# Altium integrated library TI Power Management PCMCIA and USB.IntLib: 328 symbols (part 9 of 14)
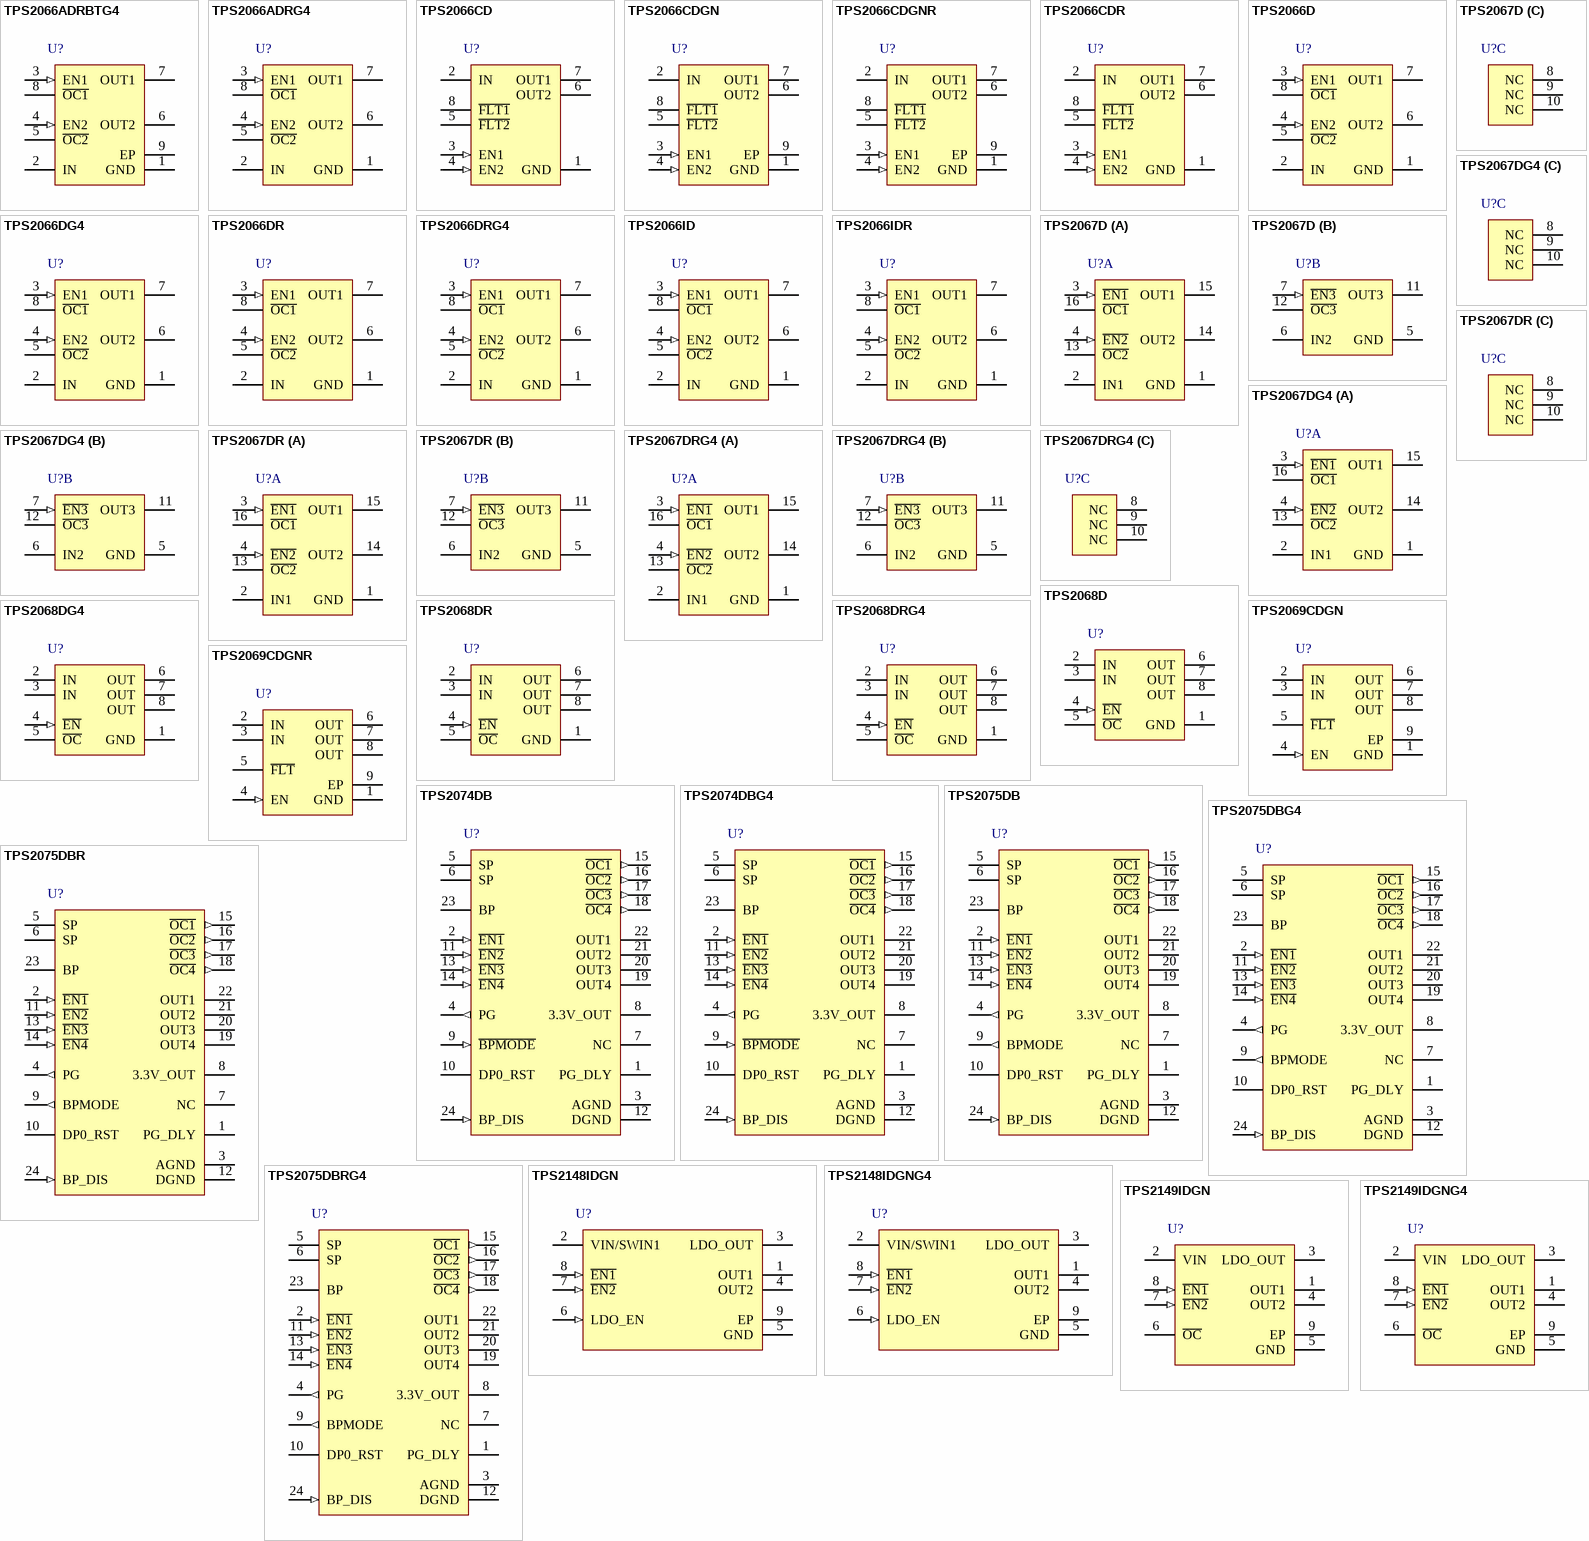
[diagram p18: symbols TPS2066ADRBTG4 to TPS2149IDGNG4]

## TPS2148IDGN
designator U?
3.3 V LDO + Dual Switch for USB Peripherals, Active-Low Enables, 2 Ports, 2 FETs, 200 mA LDO Output Current, -40 to 85 degC, 8-pin MSOP-PowerPAD (DGN), Green (RoHS & no Sb/Br); Manufacturer: Texas Instruments; PartNumber: TPS2148IDGN; LDO Output Current(mA): 200; LDO Output Range(V): 3.3; Number of FETs: 2; rDS(on) per FET, Bus Power(Typ)(mOhms): 340; SubFamily: USB Power Controller; Switch Current Limit, Bus Power(Min)(A): 0.2; Switch Enable: L; Vin(Max)(V): 5.5; Vin(Min)(V): 2.9; DatasheetVersion: SLVS373; PackageVersion: revF, May-2011; PackageReference: DGN8-1760X1425TP; PackageDescription: 8-Pin PowerPAD Plastic Small Outline Package 3 x 3 mm Body ,0.65 mm Pitch, Exposed Pad; Supplier 1: Digi-Key; Supplier Part Number 1: 296-13387-5-ND; Supplier 2: Newark; Supplier Part Number 2: 77C0096; Supplier 3: Mouser; Supplier Part Number 3: 595-TPS2148IDGN; Application: USB peripheral; Ports(Max): 2; Mounting Technology: Surface Mount; Code_JEDEC: MO-187-AA-T; ComponentLink1Description: Datasheet; ComponentLink1URL: http://www.ti.com/general/docs/lit/getliterature.tsp?genericPartNumber=TPS2148&fileType=pdf
footprint DGN8-1760X1425TP_N (TSOP, 8-Leads, Body 3x3mm, Pitch 0.65mm, Thermal Pad 1.89x1.57mm, IPC Medium Density)
footprint DGN8-1760X1425TP_L (TSOP, 8-Leads, Body 3x3mm, Pitch 0.65mm, Thermal Pad 1.89x1.57mm, IPC High Density)
footprint DGN8-1760X1425TP_M (TSOP, 8-Leads, Body 3x3mm, Pitch 0.65mm, Thermal Pad 1.89x1.57mm, IPC Low Density)
pins: 1 OUT1 (power) "Switch 1 output", 2 VIN/SWIN1 (power) "Input for LDO and switch 1; device supply voltage", 3 LDO_OUT (power) "LDO output", 4 OUT2 (power) "Switch 2 output", 5 GND (power) "Ground", 6 LDO_EN (in) "Logic level LDO enable. Active high.", 7 ~{EN2} (in) "Logic level enable to transfer power to OUT2", 8 ~{EN1} (in) "Logic level enable to transfer power to OUT1", 9 EP "Thermal Pad"

## TPS2148IDGNG4
designator U?
3.3 V LDO + Dual Switch for USB Peripherals, Active-Low Enables, 2 Ports, 2 FETs, 200 mA LDO Output Current, -40 to 85 degC, 8-pin MSOP-PowerPAD (DGN), Green (RoHS & no Sb/Br); Manufacturer: Texas Instruments; PartNumber: TPS2148IDGNG4; LDO Output Current(mA): 200; LDO Output Range(V): 3.3; Number of FETs: 2; rDS(on) per FET, Bus Power(Typ)(mOhms): 340; SubFamily: USB Power Controller; Switch Current Limit, Bus Power(Min)(A): 0.2; Switch Enable: L; Vin(Max)(V): 5.5; Vin(Min)(V): 2.9; DatasheetVersion: SLVS373; PackageVersion: revF, May-2011; PackageReference: DGN8-1760X1425TP; PackageDescription: 8-Pin PowerPAD Plastic Small Outline Package 3 x 3 mm Body ,0.65 mm Pitch, Exposed Pad; Supplier 1: Digi-Key; Supplier Part Number 1: TPS2148IDGNG4-ND; Supplier 2: Newark; Supplier Part Number 2: 18M3214; Supplier 3: Mouser; Supplier Part Number 3: 595-TPS2148IDGNG4; Application: USB peripheral; Ports(Max): 2; Mounting Technology: Surface Mount; Code_JEDEC: MO-187-AA-T; ComponentLink1Description: Datasheet; ComponentLink1URL: http://www.ti.com/general/docs/lit/getliterature.tsp?genericPartNumber=TPS2148&fileType=pdf
footprint DGN8-1760X1425TP_N (TSOP, 8-Leads, Body 3x3mm, Pitch 0.65mm, Thermal Pad 1.89x1.57mm, IPC Medium Density)
footprint DGN8-1760X1425TP_L (TSOP, 8-Leads, Body 3x3mm, Pitch 0.65mm, Thermal Pad 1.89x1.57mm, IPC High Density)
footprint DGN8-1760X1425TP_M (TSOP, 8-Leads, Body 3x3mm, Pitch 0.65mm, Thermal Pad 1.89x1.57mm, IPC Low Density)
pins: 1 OUT1 (power) "Switch 1 output", 2 VIN/SWIN1 (power) "Input for LDO and switch 1; device supply voltage", 3 LDO_OUT (power) "LDO output", 4 OUT2 (power) "Switch 2 output", 5 GND (power) "Ground", 6 LDO_EN (in) "Logic level LDO enable. Active high.", 7 ~{EN2} (in) "Logic level enable to transfer power to OUT2", 8 ~{EN1} (in) "Logic level enable to transfer power to OUT1", 9 EP "Thermal Pad"

## TPS2149IDGN
designator U?
3.3 V LDO + Dual Switch for USB Hubs, Active-Low Enables, 2 Ports, 2 FETs, 200 mA LDO Output Current, -40 to 85 degC, 8-pin MSOP-PowerPAD (DGN), Green (RoHS & no Sb/Br); Manufacturer: Texas Instruments; PartNumber: TPS2149IDGN; LDO Output Current(mA): 200; LDO Output Range(V): 3.3; Number of FETs: 2; rDS(on) per FET, Bus Power(Typ)(mOhms): 340; SubFamily: USB Power Controller; Switch Current Limit, Bus Power(Min)(A): 0.2; Switch Enable: L; Vin(Max)(V): 5.5; Vin(Min)(V): 2.9; DatasheetVersion: SLVS401; PackageVersion: revF, May-2011; PackageReference: DGN8-1760X1425TP; PackageDescription: 8-Pin PowerPAD Plastic Small Outline Package 3 x 3 mm Body ,0.65 mm Pitch, Exposed Pad; Supplier 1: Digi-Key; Supplier Part Number 1: 296-13388-5-ND; Supplier 2: Newark; Supplier Part Number 2: 77C0098; Supplier 3: Mouser; Supplier Part Number 3: 595-TPS2149IDGN; Application: USB 2-port hub; Ports(Max): 2; Mounting Technology: Surface Mount; Code_JEDEC: MO-187-AA-T; ComponentLink1Description: Datasheet; ComponentLink1URL: http://www.ti.com/general/docs/lit/getliterature.tsp?genericPartNumber=TPS2149&fileType=pdf
footprint DGN8-1760X1425TP_N (TSOP, 8-Leads, Body 3x3mm, Pitch 0.65mm, Thermal Pad 1.89x1.57mm, IPC Medium Density)
footprint DGN8-1760X1425TP_L (TSOP, 8-Leads, Body 3x3mm, Pitch 0.65mm, Thermal Pad 1.89x1.57mm, IPC High Density)
footprint DGN8-1760X1425TP_M (TSOP, 8-Leads, Body 3x3mm, Pitch 0.65mm, Thermal Pad 1.89x1.57mm, IPC Low Density)
pins: 1 OUT1 (power) "Switch 1 output", 2 VIN (power) "Input for LDO switch 1 and switch 2; device supply voltage", 3 LDO_OUT (power) "LDO output", 4 OUT2 (power) "Switch 2 output", 5 GND (power) "Ground", 6 ~{OC} (oc) "Overcurrent status flag for OUT1 and OUT2. Open drain output.", 7 ~{EN2} (in) "Logic level enable to transfer power to OUT2", 8 ~{EN1} (in) "Logic level enable to transfer power to OUT1", 9 EP "Thermal Pad"

## TPS2149IDGNG4
designator U?
3.3 V LDO + Dual Switch for USB Hubs, Active-Low Enables, 2 Ports, 2 FETs, 200 mA LDO Output Current, -40 to 85 degC, 8-pin MSOP-PowerPAD (DGN), Green (RoHS & no Sb/Br); Manufacturer: Texas Instruments; PartNumber: TPS2149IDGNG4; LDO Output Current(mA): 200; LDO Output Range(V): 3.3; Number of FETs: 2; rDS(on) per FET, Bus Power(Typ)(mOhms): 340; SubFamily: USB Power Controller; Switch Current Limit, Bus Power(Min)(A): 0.2; Switch Enable: L; Vin(Max)(V): 5.5; Vin(Min)(V): 2.9; DatasheetVersion: SLVS401; PackageVersion: revF, May-2011; PackageReference: DGN8-1760X1425TP; PackageDescription: 8-Pin PowerPAD Plastic Small Outline Package 3 x 3 mm Body ,0.65 mm Pitch, Exposed Pad; Supplier 1: Digi-Key; Supplier Part Number 1: TPS2149IDGNG4-ND; Supplier 2: Newark; Supplier Part Number 2: 58K6896; Supplier 3: Mouser; Supplier Part Number 3: 595-TPS2149IDGNG4; Application: USB 2-port hub; Ports(Max): 2; Mounting Technology: Surface Mount; Code_JEDEC: MO-187-AA-T; ComponentLink1Description: Datasheet; ComponentLink1URL: http://www.ti.com/general/docs/lit/getliterature.tsp?genericPartNumber=TPS2149&fileType=pdf
footprint DGN8-1760X1425TP_N (TSOP, 8-Leads, Body 3x3mm, Pitch 0.65mm, Thermal Pad 1.89x1.57mm, IPC Medium Density)
footprint DGN8-1760X1425TP_L (TSOP, 8-Leads, Body 3x3mm, Pitch 0.65mm, Thermal Pad 1.89x1.57mm, IPC High Density)
footprint DGN8-1760X1425TP_M (TSOP, 8-Leads, Body 3x3mm, Pitch 0.65mm, Thermal Pad 1.89x1.57mm, IPC Low Density)
pins: 1 OUT1 (power) "Switch 1 output", 2 VIN (power) "Input for LDO switch 1 and switch 2; device supply voltage", 3 LDO_OUT (power) "LDO output", 4 OUT2 (power) "Switch 2 output", 5 GND (power) "Ground", 6 ~{OC} (oc) "Overcurrent status flag for OUT1 and OUT2. Open drain output.", 7 ~{EN2} (in) "Logic level enable to transfer power to OUT2", 8 ~{EN1} (in) "Logic level enable to transfer power to OUT1", 9 EP "Thermal Pad"

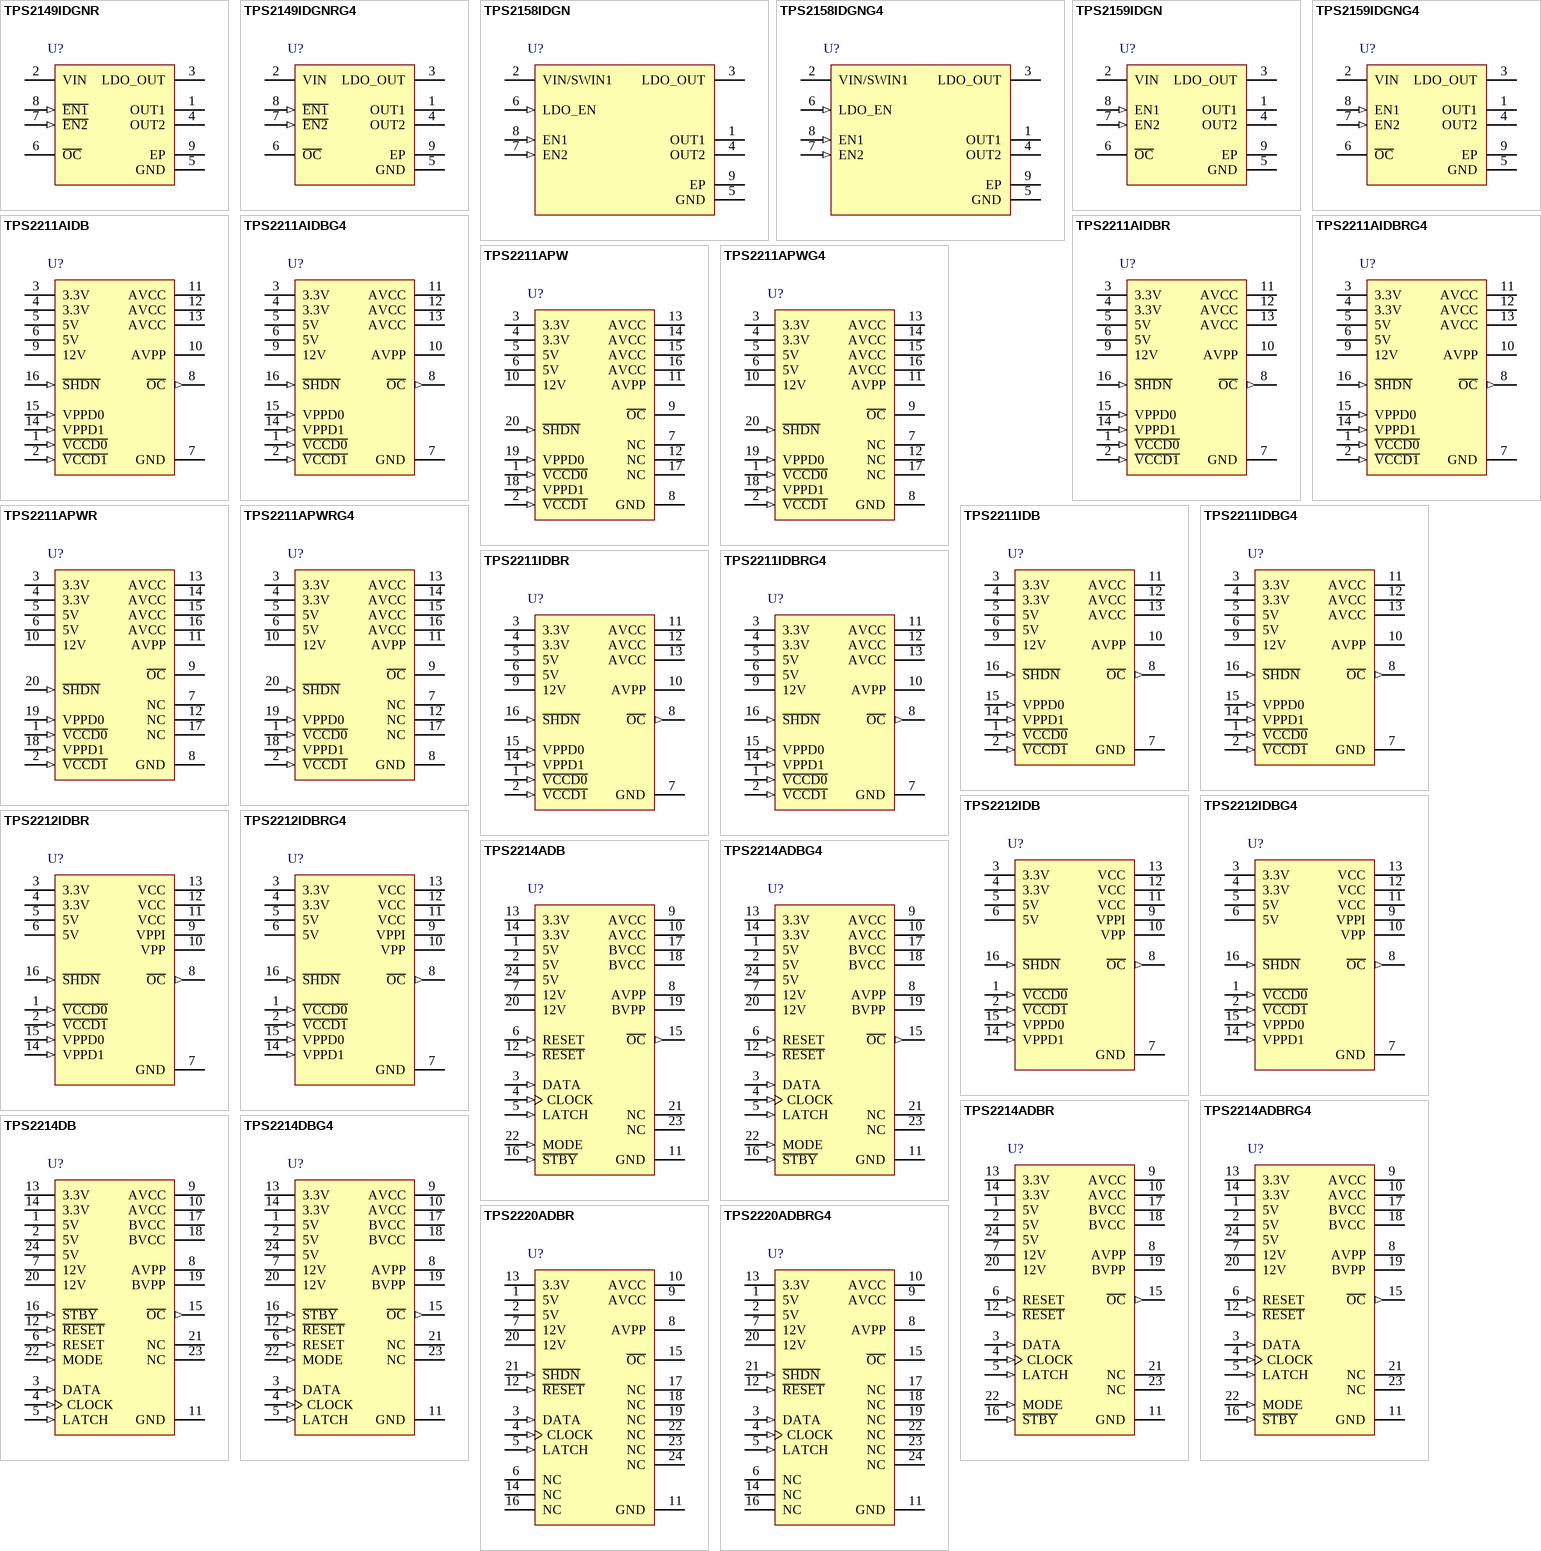
[diagram p7: symbols TPS2149IDGNR to TPS2220ADBRG4]

## TPS2149IDGNR
designator U?
3.3 V LDO + Dual Switch for USB Hubs, Active-Low Enables, 2 Ports, 2 FETs, 200 mA LDO Output Current, -40 to 85 degC, 8-pin MSOP-PowerPAD (DGN); Manufacturer: Texas Instruments; PartNumber: TPS2149IDGNR; LDO Output Current(mA): 200; LDO Output Range(V): 3.3; Number of FETs: 2; rDS(on) per FET, Bus Power(Typ)(mOhms): 340; SubFamily: USB Power Controller; Switch Current Limit, Bus Power(Min)(A): 0.2; Switch Enable: L; Vin(Max)(V): 5.5; Vin(Min)(V): 2.9; DatasheetVersion: SLVS401; PackageVersion: revF, May-2011; PackageReference: DGN8-1760X1425TP; PackageDescription: 8-Pin PowerPAD Plastic Small Outline Package 3 x 3 mm Body ,0.65 mm Pitch, Exposed Pad; Supplier 1: Digi-Key; Supplier Part Number 1: TPS2149IDGNR-ND; Supplier 2: Newark; Supplier Part Number 2: 77C0099; Supplier 3: Mouser; Supplier Part Number 3: 595-TPS2149IDGNR; Application: USB 2-port hub; Ports(Max): 2; Mounting Technology: Surface Mount; Code_JEDEC: MO-187-AA-T; ComponentLink1Description: Datasheet; ComponentLink1URL: http://www.ti.com/general/docs/lit/getliterature.tsp?genericPartNumber=TPS2149&fileType=pdf
footprint DGN8-1760X1425TP_N (TSOP, 8-Leads, Body 3x3mm, Pitch 0.65mm, Thermal Pad 1.89x1.57mm, IPC Medium Density)
footprint DGN8-1760X1425TP_L (TSOP, 8-Leads, Body 3x3mm, Pitch 0.65mm, Thermal Pad 1.89x1.57mm, IPC High Density)
footprint DGN8-1760X1425TP_M (TSOP, 8-Leads, Body 3x3mm, Pitch 0.65mm, Thermal Pad 1.89x1.57mm, IPC Low Density)
pins: 1 OUT1 (power) "Switch 1 output", 2 VIN (power) "Input for LDO switch 1 and switch 2; device supply voltage", 3 LDO_OUT (power) "LDO output", 4 OUT2 (power) "Switch 2 output", 5 GND (power) "Ground", 6 ~{OC} (oc) "Overcurrent status flag for OUT1 and OUT2. Open drain output.", 7 ~{EN2} (in) "Logic level enable to transfer power to OUT2", 8 ~{EN1} (in) "Logic level enable to transfer power to OUT1", 9 EP "Thermal Pad"

## TPS2149IDGNRG4
designator U?
3.3 V LDO + Dual Switch for USB Hubs, Active-Low Enables, 2 Ports, 2 FETs, 200 mA LDO Output Current, -40 to 85 degC, 8-pin MSOP-PowerPAD (DGN); Manufacturer: Texas Instruments; PartNumber: TPS2149IDGNRG4; LDO Output Current(mA): 200; LDO Output Range(V): 3.3; Number of FETs: 2; rDS(on) per FET, Bus Power(Typ)(mOhms): 340; SubFamily: USB Power Controller; Switch Current Limit, Bus Power(Min)(A): 0.2; Switch Enable: L; Vin(Max)(V): 5.5; Vin(Min)(V): 2.9; DatasheetVersion: SLVS401; PackageVersion: revF, May-2011; PackageReference: DGN8-1760X1425TP; PackageDescription: 8-Pin PowerPAD Plastic Small Outline Package 3 x 3 mm Body ,0.65 mm Pitch, Exposed Pad; Supplier 1: Digi-Key; Supplier Part Number 1: TPS2149IDGNRG4-ND; Supplier 2: Newark; Supplier Part Number 2: 54K1563; Supplier 3: Mouser; Supplier Part Number 3: 595-TPS2149IDGNRG4; Application: USB 2-port hub; Ports(Max): 2; Mounting Technology: Surface Mount; Code_JEDEC: MO-187-AA-T; ComponentLink1Description: Datasheet; ComponentLink1URL: http://www.ti.com/general/docs/lit/getliterature.tsp?genericPartNumber=TPS2149&fileType=pdf
footprint DGN8-1760X1425TP_N (TSOP, 8-Leads, Body 3x3mm, Pitch 0.65mm, Thermal Pad 1.89x1.57mm, IPC Medium Density)
footprint DGN8-1760X1425TP_L (TSOP, 8-Leads, Body 3x3mm, Pitch 0.65mm, Thermal Pad 1.89x1.57mm, IPC High Density)
footprint DGN8-1760X1425TP_M (TSOP, 8-Leads, Body 3x3mm, Pitch 0.65mm, Thermal Pad 1.89x1.57mm, IPC Low Density)
pins: 1 OUT1 (power) "Switch 1 output", 2 VIN (power) "Input for LDO switch 1 and switch 2; device supply voltage", 3 LDO_OUT (power) "LDO output", 4 OUT2 (power) "Switch 2 output", 5 GND (power) "Ground", 6 ~{OC} (oc) "Overcurrent status flag for OUT1 and OUT2. Open drain output.", 7 ~{EN2} (in) "Logic level enable to transfer power to OUT2", 8 ~{EN1} (in) "Logic level enable to transfer power to OUT1", 9 EP "Thermal Pad"

## TPS2158IDGN
designator U?
3.3 V LDO + Dual Switch for USB Peripherals, Active-High Enables, 2 Ports, 2 FETs, 200 mA LDO Output Current, -40 to 85 degC, 8-pin MSOP-PowerPAD (DGN), Green (RoHS & no Sb/Br); Manufacturer: Texas Instruments; PartNumber: TPS2158IDGN; LDO Output Current(mA): 200; LDO Output Range(V): 3.3; Number of FETs: 2; rDS(on) per FET, Bus Power(Typ)(mOhms): 340; SubFamily: USB Power Controller; Switch Current Limit, Bus Power(Min)(A): 0.2; Switch Enable: H; Vin(Max)(V): 5.5; Vin(Min)(V): 2.9; DatasheetVersion: SLVS373; PackageVersion: revF, May-2011; PackageReference: DGN8-1760X1425TP; PackageDescription: 8-Pin PowerPAD Plastic Small Outline Package 3 x 3 mm Body ,0.65 mm Pitch, Exposed Pad; Supplier 1: Digi-Key; Supplier Part Number 1: 296-13391-5-ND; Supplier 2: Farnell; Supplier Part Number 2: 1755623; Supplier 3: Newark; Supplier Part Number 3: 77C0108; Supplier 4: Mouser; Supplier Part Number 4: 595-TPS2158IDGN; Application: USB peripheral; Ports(Max): 2; Mounting Technology: Surface Mount; Code_JEDEC: MO-187-AA-T; ComponentLink1Description: Datasheet; ComponentLink1URL: http://www.ti.com/general/docs/lit/getliterature.tsp?genericPartNumber=TPS2158&fileType=pdf
footprint DGN8-1760X1425TP_N (TSOP, 8-Leads, Body 3x3mm, Pitch 0.65mm, Thermal Pad 1.89x1.57mm, IPC Medium Density)
footprint DGN8-1760X1425TP_L (TSOP, 8-Leads, Body 3x3mm, Pitch 0.65mm, Thermal Pad 1.89x1.57mm, IPC High Density)
footprint DGN8-1760X1425TP_M (TSOP, 8-Leads, Body 3x3mm, Pitch 0.65mm, Thermal Pad 1.89x1.57mm, IPC Low Density)
pins: 1 OUT1 (power) "Switch 1 output.", 2 VIN/SWIN1 (power) "Input for LDO and switch 1; device supply voltage.", 3 LDO_OUT (power) "LDO output.", 4 OUT2 (power) "Switch 2 output.", 5 GND (power) "Ground.", 6 LDO_EN (in) "Logic level LDO enable. Active high.", 7 EN2 (in) "Logic level enable to transfer power to OUT2.", 8 EN1 (in) "Logic level enable to transfer power to OUT1.", 9 EP (power) "Exposed Thermal Pad."

## TPS2158IDGNG4
designator U?
3.3 V LDO + Dual Switch for USB Peripherals, Active-High Enables, 2 Ports, 2 FETs, 200 mA LDO Output Current, -40 to 85 degC, 8-pin MSOP-PowerPAD (DGN), Green (RoHS & no Sb/Br); Manufacturer: Texas Instruments; PartNumber: TPS2158IDGNG4; LDO Output Current(mA): 200; LDO Output Range(V): 3.3; Number of FETs: 2; rDS(on) per FET, Bus Power(Typ)(mOhms): 340; SubFamily: USB Power Controller; Switch Current Limit, Bus Power(Min)(A): 0.2; Switch Enable: H; Vin(Max)(V): 5.5; Vin(Min)(V): 2.9; DatasheetVersion: SLVS373; PackageVersion: revF, May-2011; PackageReference: DGN8-1760X1425TP; PackageDescription: 8-Pin PowerPAD Plastic Small Outline Package 3 x 3 mm Body ,0.65 mm Pitch, Exposed Pad; Supplier 1: Digi-Key; Supplier Part Number 1: TPS2158IDGNG4-ND; Supplier 2: Newark; Supplier Part Number 2: 54K1566; Supplier 3: Mouser; Supplier Part Number 3: 595-TPS2158IDGNG4; Application: USB peripheral; Ports(Max): 2; Mounting Technology: Surface Mount; Code_JEDEC: MO-187-AA-T; ComponentLink1Description: Datasheet; ComponentLink1URL: http://www.ti.com/general/docs/lit/getliterature.tsp?genericPartNumber=TPS2158&fileType=pdf
footprint DGN8-1760X1425TP_N (TSOP, 8-Leads, Body 3x3mm, Pitch 0.65mm, Thermal Pad 1.89x1.57mm, IPC Medium Density)
footprint DGN8-1760X1425TP_L (TSOP, 8-Leads, Body 3x3mm, Pitch 0.65mm, Thermal Pad 1.89x1.57mm, IPC High Density)
footprint DGN8-1760X1425TP_M (TSOP, 8-Leads, Body 3x3mm, Pitch 0.65mm, Thermal Pad 1.89x1.57mm, IPC Low Density)
pins: 1 OUT1 (power) "Switch 1 output.", 2 VIN/SWIN1 (power) "Input for LDO and switch 1; device supply voltage.", 3 LDO_OUT (power) "LDO output.", 4 OUT2 (power) "Switch 2 output.", 5 GND (power) "Ground.", 6 LDO_EN (in) "Logic level LDO enable. Active high.", 7 EN2 (in) "Logic level enable to transfer power to OUT2.", 8 EN1 (in) "Logic level enable to transfer power to OUT1.", 9 EP (power) "Exposed Thermal Pad."

## TPS2159IDGN
designator U?
3.3 V LDO + Dual Switch for USB Hubs, Active-High Enables, 2 Ports, 2 FETs, 200 mA LDO Output Current, -40 to 85 degC, 8-pin MSOP-PowerPAD (DGN), Green (RoHS & no Sb/Br); Manufacturer: Texas Instruments; PartNumber: TPS2159IDGN; LDO Output Current(mA): 200; LDO Output Range(V): 3.3; Number of FETs: 2; rDS(on) per FET, Bus Power(Typ)(mOhms): 340; SubFamily: USB Power Controller; Switch Current Limit, Bus Power(Min)(A): 0.2; Switch Enable: H; Vin(Max)(V): 5.5; Vin(Min)(V): 2.9; DatasheetVersion: SLVS401; PackageVersion: revF, May-2011; PackageReference: DGN8-1760X1425TP; PackageDescription: 8-Pin PowerPAD Plastic Small Outline Package 3 x 3 mm Body ,0.65 mm Pitch, Exposed Pad; Supplier 1: Digi-Key; Supplier Part Number 1: 296-13392-5-ND; Supplier 2: Newark; Supplier Part Number 2: 77C0110; Supplier 3: Mouser; Supplier Part Number 3: 595-TPS2159IDGN; Application: USB 2-port hub; Ports(Max): 2; Mounting Technology: Surface Mount; Code_JEDEC: MO-187-AA-T; ComponentLink1Description: Datasheet; ComponentLink1URL: http://www.ti.com/general/docs/lit/getliterature.tsp?genericPartNumber=TPS2159&fileType=pdf
footprint DGN8-1760X1425TP_N (TSOP, 8-Leads, Body 3x3mm, Pitch 0.65mm, Thermal Pad 1.89x1.57mm, IPC Medium Density)
footprint DGN8-1760X1425TP_L (TSOP, 8-Leads, Body 3x3mm, Pitch 0.65mm, Thermal Pad 1.89x1.57mm, IPC High Density)
footprint DGN8-1760X1425TP_M (TSOP, 8-Leads, Body 3x3mm, Pitch 0.65mm, Thermal Pad 1.89x1.57mm, IPC Low Density)
pins: 1 OUT1 (power) "Switch 1 output", 2 VIN (power) "Input for LDO switch 1 and switch 2; device supply voltage", 3 LDO_OUT (power) "LDO output", 4 OUT2 (power) "Switch 2 output", 5 GND (power) "Ground", 6 ~{OC} (oc) "Overcurrent status flag for OUT1 and OUT2. Open drain output.", 7 EN2 (in) "Logic level enable to transfer power to OUT2", 8 EN1 (in) "Logic level enable to transfer power to OUT1", 9 EP "Thermal Pad"

## TPS2159IDGNG4
designator U?
3.3 V LDO + Dual Switch for USB Hubs, Active-High Enables, 2 Ports, 2 FETs, 200 mA LDO Output Current, -40 to 85 degC, 8-pin MSOP-PowerPAD (DGN), Green (RoHS & no Sb/Br); Manufacturer: Texas Instruments; PartNumber: TPS2159IDGNG4; LDO Output Current(mA): 200; LDO Output Range(V): 3.3; Number of FETs: 2; rDS(on) per FET, Bus Power(Typ)(mOhms): 340; SubFamily: USB Power Controller; Switch Current Limit, Bus Power(Min)(A): 0.2; Switch Enable: H; Vin(Max)(V): 5.5; Vin(Min)(V): 2.9; DatasheetVersion: SLVS401; PackageVersion: revF, May-2011; PackageReference: DGN8-1760X1425TP; PackageDescription: 8-Pin PowerPAD Plastic Small Outline Package 3 x 3 mm Body ,0.65 mm Pitch, Exposed Pad; Supplier 1: Digi-Key; Supplier Part Number 1: TPS2159IDGNG4-ND; Supplier 2: Newark; Supplier Part Number 2: 81K4134; Supplier 3: Mouser; Supplier Part Number 3: 595-TPS2159IDGNG4; Application: USB 2-port hub; Ports(Max): 2; Mounting Technology: Surface Mount; Code_JEDEC: MO-187-AA-T; ComponentLink1Description: Datasheet; ComponentLink1URL: http://www.ti.com/general/docs/lit/getliterature.tsp?genericPartNumber=TPS2159&fileType=pdf
footprint DGN8-1760X1425TP_N (TSOP, 8-Leads, Body 3x3mm, Pitch 0.65mm, Thermal Pad 1.89x1.57mm, IPC Medium Density)
footprint DGN8-1760X1425TP_L (TSOP, 8-Leads, Body 3x3mm, Pitch 0.65mm, Thermal Pad 1.89x1.57mm, IPC High Density)
footprint DGN8-1760X1425TP_M (TSOP, 8-Leads, Body 3x3mm, Pitch 0.65mm, Thermal Pad 1.89x1.57mm, IPC Low Density)
pins: 1 OUT1 (power) "Switch 1 output", 2 VIN (power) "Input for LDO switch 1 and switch 2; device supply voltage", 3 LDO_OUT (power) "LDO output", 4 OUT2 (power) "Switch 2 output", 5 GND (power) "Ground", 6 ~{OC} (oc) "Overcurrent status flag for OUT1 and OUT2. Open drain output.", 7 EN2 (in) "Logic level enable to transfer power to OUT2", 8 EN1 (in) "Logic level enable to transfer power to OUT1", 9 EP "Thermal Pad"

## TPS2211AIDB
designator U?
1 A Single-Slot PC Card Power Switch with Parallel Interface, -40 to 85 degC, 16-pin SSOP (DB), Green (RoHS & no Sb/Br); Manufacturer: Texas Instruments; PartNumber: TPS2211AIDB; 3V rDS(on)(Typ)(mOhm): 70; Adjustable Current Limit(Min)(A): 1; Curr/Temp Protection: TRUE; SubFamily: PCMCIA/Cardbus Switch Matrix; Supports 12V: TURE; DatasheetVersion: SLVS282B; PackageVersion: revE, Dec-2001; PackageReference: DB16; PackageDescription: 16-Pin Plastic Small Outline Package, 6.2 x 5.3 mm Body, 0.65 mm Pitch; Supplier 1: Digi-Key; Supplier Part Number 1: 296-3460-5-ND; Supplier 2: Farnell; Supplier Part Number 2: 8456828; Supplier 3: Newark; Supplier Part Number 3: 38K8641; Supplier 4: Newark; Supplier Part Number 4: 35K1311; Supplier 5: Mouser; Supplier Part Number 5: 595-TPS2211AIDB; 5V rDS(on)(Typ)(mOhm): 70; Interface: Parallel; Over Current Reporting: TRUE; Ports: 1; Single: TRUE; Supports VPP: TRUE; Mounting Technology: Surface Mount; Code_JEDEC: MO-150; ComponentLink1Description: Datasheet; ComponentLink1URL: http://www.ti.com/general/docs/lit/getliterature.tsp?genericPartNumber=TPS2211A&fileType=pdf
footprint DB16_N (SOP, 16-Leads, Body 6.2x5.3mm, Pitch 0.65mm, IPC Medium Density)
footprint DB16_L (SOP, 16-Leads, Body 6.2x5.3mm, Pitch 0.65mm, IPC High Density)
footprint DB16_M (SOP, 16-Leads, Body 6.2x5.3mm, Pitch 0.65mm, IPC Low Density)
pins: 1 ~{VCCD0} (in) "Logic input that controls voltage of AVCC", 2 ~{VCCD1} (in) "Logic input that controls voltage of AVCC", 3 3.3V (power) "3.3-V VCC input for card power and/or chip power if 5 V is not present", 4 3.3V (power) "3.3-V VCC input for card power and/or chip power if 5 V is not present", 5 5V (power) "5-V VCC input for card power and/or chip power", 6 5V (power) "5-V VCC input for card power and/or chip power", 7 GND (power) "Ground", 8 ~{OC} (out) "Logic-level overcurrent reporting output that goes low when an overcurrent conditions exists", 9 12V (power) "12-V Vpp input card power", 10 AVPP (power) "Switched output that delivers 0 V, 3.3-V, 5-V, 12-V, or high impedance to card", 11 AVCC (power) "Switched output that delivers 0 V, 3.3-V, 5-V, or high impedance to card; must be tied together externally for the 20-pin PWP package", 12 AVCC (power) "Switched output that delivers 0 V, 3.3-V, 5-V, or high impedance to card; must be tied together externally for the 20-pin PWP package", 13 AVCC (power) "Switched output that delivers 0 V, 3.3-V, 5-V, or high impedance to card; must be tied together externally for the 20-pin PWP package", 14 VPPD1 (in) "Logic input that controls voltage of AVPP", 15 VPPD0 (in) "Logic input that controls voltage of AVPP", 16 ~{SHDN} (in) "Logic input that shuts down the device and sets all power outputs to high-impedance state"

## TPS2211AIDBG4
designator U?
1 A Single-Slot PC Card Power Switch with Parallel Interface, -40 to 85 degC, 16-pin SSOP (DB), Green (RoHS & no Sb/Br); Manufacturer: Texas Instruments; PartNumber: TPS2211AIDBG4; 3V rDS(on)(Typ)(mOhm): 70; Adjustable Current Limit(Min)(A): 1; Curr/Temp Protection: TRUE; SubFamily: PCMCIA/Cardbus Switch Matrix; DatasheetVersion: SLVS282B; PackageVersion: revE, Dec-2001; PackageReference: DB16; PackageDescription: 16-Pin Plastic Small Outline Package, 6.2 x 5.3 mm Body, 0.65 mm Pitch; Supplier 1: Digi-Key; Supplier Part Number 1: TPS2211AIDBG4-ND; Supplier 2: Newark; Supplier Part Number 2: 18M3215; Supplier 3: Mouser; Supplier Part Number 3: 595-TPS2211AIDBG4; 5V rDS(on)(Typ)(mOhm): 70; Interface: Parallel; Over Current Reporting: TRUE; Ports: 1; Single: TRUE; Supports 12V: TRUE; Supports VPP: TRUE; Mounting Technology: Surface Mount; Code_JEDEC: MO-150; ComponentLink1Description: Datasheet; ComponentLink1URL: http://www.ti.com/general/docs/lit/getliterature.tsp?genericPartNumber=TPS2211A&fileType=pdf
footprint DB16_N (SOP, 16-Leads, Body 6.2x5.3mm, Pitch 0.65mm, IPC Medium Density)
footprint DB16_L (SOP, 16-Leads, Body 6.2x5.3mm, Pitch 0.65mm, IPC High Density)
footprint DB16_M (SOP, 16-Leads, Body 6.2x5.3mm, Pitch 0.65mm, IPC Low Density)
pins: 1 ~{VCCD0} (in) "Logic input that controls voltage of AVCC", 2 ~{VCCD1} (in) "Logic input that controls voltage of AVCC", 3 3.3V (power) "3.3-V VCC input for card power and/or chip power if 5 V is not present", 4 3.3V (power) "3.3-V VCC input for card power and/or chip power if 5 V is not present", 5 5V (power) "5-V VCC input for card power and/or chip power", 6 5V (power) "5-V VCC input for card power and/or chip power", 7 GND (power) "Ground", 8 ~{OC} (out) "Logic-level overcurrent reporting output that goes low when an overcurrent conditions exists", 9 12V (power) "12-V Vpp input card power", 10 AVPP (power) "Switched output that delivers 0 V, 3.3-V, 5-V, 12-V, or high impedance to card", 11 AVCC (power) "Switched output that delivers 0 V, 3.3-V, 5-V, or high impedance to card; must be tied together externally for the 20-pin PWP package", 12 AVCC (power) "Switched output that delivers 0 V, 3.3-V, 5-V, or high impedance to card; must be tied together externally for the 20-pin PWP package", 13 AVCC (power) "Switched output that delivers 0 V, 3.3-V, 5-V, or high impedance to card; must be tied together externally for the 20-pin PWP package", 14 VPPD1 (in) "Logic input that controls voltage of AVPP", 15 VPPD0 (in) "Logic input that controls voltage of AVPP", 16 ~{SHDN} (in) "Logic input that shuts down the device and sets all power outputs to high-impedance state"

## TPS2211AIDBR
designator U?
1 A Single-Slot PC Card Power Switch with Parallel Interface, -40 to 85 degC, 16-pin SSOP (DB), Green (RoHS & no Sb/Br); Manufacturer: Texas Instruments; PartNumber: TPS2211AIDBR; 3V rDS(on)(Typ)(mOhm): 70; Adjustable Current Limit(Min)(A): 1; Curr/Temp Protection: TRUE; SubFamily: PCMCIA/Cardbus Switch Matrix; DatasheetVersion: SLVS282B; PackageVersion: revE, Dec-2001; PackageReference: DB16; PackageDescription: 16-Pin Plastic Small Outline Package, 6.2 x 5.3 mm Body, 0.65 mm Pitch; Supplier 1: Digi-Key; Supplier Part Number 1: 296-13827-2-ND; Supplier 2: Digi-Key; Supplier Part Number 2: 296-13827-1-ND; Supplier 3: Digi-Key; Supplier Part Number 3: 296-13827-6-ND; Supplier 4: Newark; Supplier Part Number 4: 77C0127; Supplier 5: Mouser; Supplier Part Number 5: 595-TPS2211AIDBR; 5V rDS(on)(Typ)(mOhm): 70; Interface: Parallel; Over Current Reporting: TRUE; Ports: 1; Single: TRUE; Supports 12V: TRUE; Supports VPP: TRUE; Mounting Technology: Surface Mount; Code_JEDEC: MO-150; ComponentLink1Description: Datasheet; ComponentLink1URL: http://www.ti.com/general/docs/lit/getliterature.tsp?genericPartNumber=TPS2211A&fileType=pdf
footprint DB16_N (SOP, 16-Leads, Body 6.2x5.3mm, Pitch 0.65mm, IPC Medium Density)
footprint DB16_L (SOP, 16-Leads, Body 6.2x5.3mm, Pitch 0.65mm, IPC High Density)
footprint DB16_M (SOP, 16-Leads, Body 6.2x5.3mm, Pitch 0.65mm, IPC Low Density)
pins: 1 ~{VCCD0} (in) "Logic input that controls voltage of AVCC", 2 ~{VCCD1} (in) "Logic input that controls voltage of AVCC", 3 3.3V (power) "3.3-V VCC input for card power and/or chip power if 5 V is not present", 4 3.3V (power) "3.3-V VCC input for card power and/or chip power if 5 V is not present", 5 5V (power) "5-V VCC input for card power and/or chip power", 6 5V (power) "5-V VCC input for card power and/or chip power", 7 GND (power) "Ground", 8 ~{OC} (out) "Logic-level overcurrent reporting output that goes low when an overcurrent conditions exists", 9 12V (power) "12-V Vpp input card power", 10 AVPP (power) "Switched output that delivers 0 V, 3.3-V, 5-V, 12-V, or high impedance to card", 11 AVCC (power) "Switched output that delivers 0 V, 3.3-V, 5-V, or high impedance to card; must be tied together externally for the 20-pin PWP package", 12 AVCC (power) "Switched output that delivers 0 V, 3.3-V, 5-V, or high impedance to card; must be tied together externally for the 20-pin PWP package", 13 AVCC (power) "Switched output that delivers 0 V, 3.3-V, 5-V, or high impedance to card; must be tied together externally for the 20-pin PWP package", 14 VPPD1 (in) "Logic input that controls voltage of AVPP", 15 VPPD0 (in) "Logic input that controls voltage of AVPP", 16 ~{SHDN} (in) "Logic input that shuts down the device and sets all power outputs to high-impedance state"

## TPS2211AIDBRG4
designator U?
1 A Single-Slot PC Card Power Switch with Parallel Interface, -40 to 85 degC, 16-pin SSOP (DB), Green (RoHS & no Sb/Br); Manufacturer: Texas Instruments; PartNumber: TPS2211AIDBRG4; 3V rDS(on)(Typ)(mOhm): 70; Adjustable Current Limit(Min)(A): 1; Curr/Temp Protection: TRUE; SubFamily: PCMCIA/Cardbus Switch Matrix; DatasheetVersion: SLVS282B; PackageVersion: revE, Dec-2001; PackageReference: DB16; PackageDescription: 16-Pin Plastic Small Outline Package, 6.2 x 5.3 mm Body, 0.65 mm Pitch; Supplier 1: Digi-Key; Supplier Part Number 1: TPS2211AIDBRG4-ND; Supplier 2: Newark; Supplier Part Number 2: 31K7811; Supplier 3: Mouser; Supplier Part Number 3: 595-TPS2211AIDBRG4; 5V rDS(on)(Typ)(mOhm): 70; Interface: Parallel; Over Current Reporting: TRUE; Ports: 1; Single: TRUE; Supports 12V: TRUE; Supports VPP: TRUE; Mounting Technology: Surface Mount; Code_JEDEC: MO-150; ComponentLink1Description: Datasheet; ComponentLink1URL: http://www.ti.com/general/docs/lit/getliterature.tsp?genericPartNumber=TPS2211A&fileType=pdf
footprint DB16_N (SOP, 16-Leads, Body 6.2x5.3mm, Pitch 0.65mm, IPC Medium Density)
footprint DB16_L (SOP, 16-Leads, Body 6.2x5.3mm, Pitch 0.65mm, IPC High Density)
footprint DB16_M (SOP, 16-Leads, Body 6.2x5.3mm, Pitch 0.65mm, IPC Low Density)
pins: 1 ~{VCCD0} (in) "Logic input that controls voltage of AVCC", 2 ~{VCCD1} (in) "Logic input that controls voltage of AVCC", 3 3.3V (power) "3.3-V VCC input for card power and/or chip power if 5 V is not present", 4 3.3V (power) "3.3-V VCC input for card power and/or chip power if 5 V is not present", 5 5V (power) "5-V VCC input for card power and/or chip power", 6 5V (power) "5-V VCC input for card power and/or chip power", 7 GND (power) "Ground", 8 ~{OC} (out) "Logic-level overcurrent reporting output that goes low when an overcurrent conditions exists", 9 12V (power) "12-V Vpp input card power", 10 AVPP (power) "Switched output that delivers 0 V, 3.3-V, 5-V, 12-V, or high impedance to card", 11 AVCC (power) "Switched output that delivers 0 V, 3.3-V, 5-V, or high impedance to card; must be tied together externally for the 20-pin PWP package", 12 AVCC (power) "Switched output that delivers 0 V, 3.3-V, 5-V, or high impedance to card; must be tied together externally for the 20-pin PWP package", 13 AVCC (power) "Switched output that delivers 0 V, 3.3-V, 5-V, or high impedance to card; must be tied together externally for the 20-pin PWP package", 14 VPPD1 (in) "Logic input that controls voltage of AVPP", 15 VPPD0 (in) "Logic input that controls voltage of AVPP", 16 ~{SHDN} (in) "Logic input that shuts down the device and sets all power outputs to high-impedance state"

## TPS2211APW
designator U?
1 A Single-Slot PC Card Power Switch with Parallel Interface, -40 to 85 degC, 20-pin TSSOP (PW), Green (RoHS & no Sb/Br); Manufacturer: Texas Instruments; PartNumber: TPS2211APW; 3V rDS(on)(Typ)(mOhm): 70; Adjustable Current Limit(Min)(A): 1; Curr/Temp Protection: TRUE; SubFamily: PCMCIA/Cardbus Switch Matrix; DatasheetVersion: SLVS282B; PackageVersion: revG, Feb-2011; PackageReference: PW20; PackageDescription: 20-Pin Plastic Thin Small Outline Package 6.5 x 4.4 mm Body ,0.65 mm Pitch; Supplier 1: Digi-Key; Supplier Part Number 1: 296-18279-5-ND; Supplier 2: Newark; Supplier Part Number 2: 43K9723; Supplier 3: Mouser; Supplier Part Number 3: 595-TPS2211APW; 5V rDS(on)(Typ)(mOhm): 70; Interface: Parallel; Over Current Reporting: TRUE; Ports: 1; Single: TRUE; Supports 12V: TRUE; Supports VPP: TRUE; Mounting Technology: Surface Mount; Code_JEDEC: MO-153; ComponentLink1Description: Datasheet; ComponentLink1URL: http://www.ti.com/general/docs/lit/getliterature.tsp?genericPartNumber=TPS2211A&fileType=pdf
footprint PW20_N (TSOP, 20-Leads, Body 6.5x4.4mm, Pitch 0.65mm, IPC Medium Density)
footprint PW20_L (TSOP, 20-Leads, Body 6.5x4.4mm, Pitch 0.65mm, IPC High Density)
footprint PW20_M (TSOP, 20-Leads, Body 6.5x4.4mm, Pitch 0.65mm, IPC Low Density)
pins: 1 ~{VCCD0} (in) "Logic input that controls voltage of AVCC (see control-logic table)", 2 ~{VCCD1} (in) "Logic input that controls voltage of AVCC (see control-logic table)", 3 3.3V (power) "3.3-V VCC input for card power and/or chip power if 5 V is not present", 4 3.3V (power) "3.3-V VCC input for card power and/or chip power if 5 V is not present", 5 5V (power) "5-V VCC input for card power and/or chip power", 6 5V (power) "5-V VCC input for card power and/or chip power", 7 NC "No internal connection", 8 GND (power) "Ground", 9 ~{OC} (hiz) "Logic-level overcurrent reporting output that goes low when an overcurrent conditions exists", 10 12V (power) "12-V Vpp input card power", 11 AVPP (power) "Switched output that delivers 0 V, 3.3-V, 5-V, 12-V, or high impedance to card", 12 NC "No internal connection", 13 AVCC (power) "Switched output that delivers 0 V, 3.3-V, 5-V, or high impedance to card; must be tied together externally for the 20-pin PWP package", 14 AVCC (power) "Switched output that delivers 0 V, 3.3-V, 5-V, or high impedance to card; must be tied together externally for the 20-pin PWP package", 15 AVCC (power) "Switched output that delivers 0 V, 3.3-V, 5-V, or high impedance to card; must be tied together externally for the 20-pin PWP package", 16 AVCC (power) "Switched output that delivers 0 V, 3.3-V, 5-V, or high impedance to card; must be tied together externally for the 20-pin PWP package", 17 NC "No internal connection", 18 VPPD1 (in) "Logic input that controls voltage of AVPP (see control-logic table)", 19 VPPD0 (in) "Logic input that controls voltage of AVPP (see control-logic table)", 20 ~{SHDN} (in) "Logic input that shuts down the device and sets all power outputs to high-impedance state"

## TPS2211APWG4
designator U?
1 A Single-Slot PC Card Power Switch with Parallel Interface, -40 to 85 degC, 20-pin TSSOP (PW), Green (RoHS & no Sb/Br); Manufacturer: Texas Instruments; PartNumber: TPS2211APWG4; 3V rDS(on)(Typ)(mOhm): 70; Adjustable Current Limit(Min)(A): 1; Curr/Temp Protection: TRUE; SubFamily: PCMCIA/Cardbus Switch Matrix; DatasheetVersion: SLVS282B; PackageVersion: revG, Feb-2011; PackageReference: PW20; PackageDescription: 20-Pin Plastic Thin Small Outline Package 6.5 x 4.4 mm Body ,0.65 mm Pitch; Supplier 1: Digi-Key; Supplier Part Number 1: TPS2211APWG4-ND; Supplier 2: Newark; Supplier Part Number 2: 80K3384; Supplier 3: Mouser; Supplier Part Number 3: 595-TPS2211APWG4; 5V rDS(on)(Typ)(mOhm): 70; Interface: Parallel; Over Current Reporting: TRUE; Ports: 1; Single: TRUE; Supports 12V: TRUE; Supports VPP: TRUE; Mounting Technology: Surface Mount; Code_JEDEC: MO-153; ComponentLink1Description: Datasheet; ComponentLink1URL: http://www.ti.com/general/docs/lit/getliterature.tsp?genericPartNumber=TPS2211A&fileType=pdf
footprint PW20_N (TSOP, 20-Leads, Body 6.5x4.4mm, Pitch 0.65mm, IPC Medium Density)
footprint PW20_L (TSOP, 20-Leads, Body 6.5x4.4mm, Pitch 0.65mm, IPC High Density)
footprint PW20_M (TSOP, 20-Leads, Body 6.5x4.4mm, Pitch 0.65mm, IPC Low Density)
pins: 1 ~{VCCD0} (in) "Logic input that controls voltage of AVCC (see control-logic table)", 2 ~{VCCD1} (in) "Logic input that controls voltage of AVCC (see control-logic table)", 3 3.3V (power) "3.3-V VCC input for card power and/or chip power if 5 V is not present", 4 3.3V (power) "3.3-V VCC input for card power and/or chip power if 5 V is not present", 5 5V (power) "5-V VCC input for card power and/or chip power", 6 5V (power) "5-V VCC input for card power and/or chip power", 7 NC "No internal connection", 8 GND (power) "Ground", 9 ~{OC} (hiz) "Logic-level overcurrent reporting output that goes low when an overcurrent conditions exists", 10 12V (power) "12-V Vpp input card power", 11 AVPP (power) "Switched output that delivers 0 V, 3.3-V, 5-V, 12-V, or high impedance to card", 12 NC "No internal connection", 13 AVCC (power) "Switched output that delivers 0 V, 3.3-V, 5-V, or high impedance to card; must be tied together externally for the 20-pin PWP package", 14 AVCC (power) "Switched output that delivers 0 V, 3.3-V, 5-V, or high impedance to card; must be tied together externally for the 20-pin PWP package", 15 AVCC (power) "Switched output that delivers 0 V, 3.3-V, 5-V, or high impedance to card; must be tied together externally for the 20-pin PWP package", 16 AVCC (power) "Switched output that delivers 0 V, 3.3-V, 5-V, or high impedance to card; must be tied together externally for the 20-pin PWP package", 17 NC "No internal connection", 18 VPPD1 (in) "Logic input that controls voltage of AVPP (see control-logic table)", 19 VPPD0 (in) "Logic input that controls voltage of AVPP (see control-logic table)", 20 ~{SHDN} (in) "Logic input that shuts down the device and sets all power outputs to high-impedance state"

## TPS2211APWR
designator U?
1 A Single-Slot PC Card Power Switch with Parallel Interface, -40 to 85 degC, 20-pin TSSOP (PW), Green (RoHS & no Sb/Br); Manufacturer: Texas Instruments; PartNumber: TPS2211APWR; 3V rDS(on)(Typ)(mOhm): 70; Adjustable Current Limit(Min)(A): 1; Curr/Temp Protection: TRUE; SubFamily: PCMCIA/Cardbus Switch Matrix; DatasheetVersion: SLVS282B; PackageVersion: revG, Feb-2011; PackageReference: PW20; PackageDescription: 20-Pin Plastic Thin Small Outline Package 6.5 x 4.4 mm Body ,0.65 mm Pitch; Supplier 1: Digi-Key; Supplier Part Number 1: TPS2211APWR-ND; Supplier 2: Mouser; Supplier Part Number 2: 595-TPS2211APWR; 5V rDS(on)(Typ)(mOhm): 70; Interface: Parallel; Over Current Reporting: TRUE; Ports: 1; Single: TRUE; Supports 12V: TRUE; Supports VPP: TRUE; Mounting Technology: Surface Mount; Code_JEDEC: MO-153; ComponentLink1Description: Datasheet; ComponentLink1URL: http://www.ti.com/general/docs/lit/getliterature.tsp?genericPartNumber=TPS2211A&fileType=pdf
footprint PW20_N (TSOP, 20-Leads, Body 6.5x4.4mm, Pitch 0.65mm, IPC Medium Density)
footprint PW20_L (TSOP, 20-Leads, Body 6.5x4.4mm, Pitch 0.65mm, IPC High Density)
footprint PW20_M (TSOP, 20-Leads, Body 6.5x4.4mm, Pitch 0.65mm, IPC Low Density)
pins: 1 ~{VCCD0} (in) "Logic input that controls voltage of AVCC (see control-logic table)", 2 ~{VCCD1} (in) "Logic input that controls voltage of AVCC (see control-logic table)", 3 3.3V (power) "3.3-V VCC input for card power and/or chip power if 5 V is not present", 4 3.3V (power) "3.3-V VCC input for card power and/or chip power if 5 V is not present", 5 5V (power) "5-V VCC input for card power and/or chip power", 6 5V (power) "5-V VCC input for card power and/or chip power", 7 NC "No internal connection", 8 GND (power) "Ground", 9 ~{OC} (hiz) "Logic-level overcurrent reporting output that goes low when an overcurrent conditions exists", 10 12V (power) "12-V Vpp input card power", 11 AVPP (power) "Switched output that delivers 0 V, 3.3-V, 5-V, 12-V, or high impedance to card", 12 NC "No internal connection", 13 AVCC (power) "Switched output that delivers 0 V, 3.3-V, 5-V, or high impedance to card; must be tied together externally for the 20-pin PWP package", 14 AVCC (power) "Switched output that delivers 0 V, 3.3-V, 5-V, or high impedance to card; must be tied together externally for the 20-pin PWP package", 15 AVCC (power) "Switched output that delivers 0 V, 3.3-V, 5-V, or high impedance to card; must be tied together externally for the 20-pin PWP package", 16 AVCC (power) "Switched output that delivers 0 V, 3.3-V, 5-V, or high impedance to card; must be tied together externally for the 20-pin PWP package", 17 NC "No internal connection", 18 VPPD1 (in) "Logic input that controls voltage of AVPP (see control-logic table)", 19 VPPD0 (in) "Logic input that controls voltage of AVPP (see control-logic table)", 20 ~{SHDN} (in) "Logic input that shuts down the device and sets all power outputs to high-impedance state"

## TPS2211APWRG4
designator U?
1 A Single-Slot PC Card Power Switch with Parallel Interface, -40 to 85 degC, 20-pin TSSOP (PW), Green (RoHS & no Sb/Br); Manufacturer: Texas Instruments; PartNumber: TPS2211APWRG4; 3V rDS(on)(Typ)(mOhm): 70; Adjustable Current Limit(Min)(A): 1; Curr/Temp Protection: TRUE; SubFamily: PCMCIA/Cardbus Switch Matrix; DatasheetVersion: SLVS282B; PackageVersion: revG, Feb-2011; PackageReference: PW20; PackageDescription: 20-Pin Plastic Thin Small Outline Package 6.5 x 4.4 mm Body ,0.65 mm Pitch; Supplier 1: Digi-Key; Supplier Part Number 1: TPS2211APWRG4-ND; Supplier 2: Mouser; Supplier Part Number 2: 595-TPS2211APWRG4; 5V rDS(on)(Typ)(mOhm): 70; Interface: Parallel; Over Current Reporting: TRUE; Ports: 1; Single: TRUE; Supports 12V: TRUE; Supports VPP: TRUE; Mounting Technology: Surface Mount; Code_JEDEC: MO-153; ComponentLink1Description: Datasheet; ComponentLink1URL: http://www.ti.com/general/docs/lit/getliterature.tsp?genericPartNumber=TPS2211A&fileType=pdf
footprint PW20_N (TSOP, 20-Leads, Body 6.5x4.4mm, Pitch 0.65mm, IPC Medium Density)
footprint PW20_L (TSOP, 20-Leads, Body 6.5x4.4mm, Pitch 0.65mm, IPC High Density)
footprint PW20_M (TSOP, 20-Leads, Body 6.5x4.4mm, Pitch 0.65mm, IPC Low Density)
pins: 1 ~{VCCD0} (in) "Logic input that controls voltage of AVCC (see control-logic table)", 2 ~{VCCD1} (in) "Logic input that controls voltage of AVCC (see control-logic table)", 3 3.3V (power) "3.3-V VCC input for card power and/or chip power if 5 V is not present", 4 3.3V (power) "3.3-V VCC input for card power and/or chip power if 5 V is not present", 5 5V (power) "5-V VCC input for card power and/or chip power", 6 5V (power) "5-V VCC input for card power and/or chip power", 7 NC "No internal connection", 8 GND (power) "Ground", 9 ~{OC} (hiz) "Logic-level overcurrent reporting output that goes low when an overcurrent conditions exists", 10 12V (power) "12-V Vpp input card power", 11 AVPP (power) "Switched output that delivers 0 V, 3.3-V, 5-V, 12-V, or high impedance to card", 12 NC "No internal connection", 13 AVCC (power) "Switched output that delivers 0 V, 3.3-V, 5-V, or high impedance to card; must be tied together externally for the 20-pin PWP package", 14 AVCC (power) "Switched output that delivers 0 V, 3.3-V, 5-V, or high impedance to card; must be tied together externally for the 20-pin PWP package", 15 AVCC (power) "Switched output that delivers 0 V, 3.3-V, 5-V, or high impedance to card; must be tied together externally for the 20-pin PWP package", 16 AVCC (power) "Switched output that delivers 0 V, 3.3-V, 5-V, or high impedance to card; must be tied together externally for the 20-pin PWP package", 17 NC "No internal connection", 18 VPPD1 (in) "Logic input that controls voltage of AVPP (see control-logic table)", 19 VPPD0 (in) "Logic input that controls voltage of AVPP (see control-logic table)", 20 ~{SHDN} (in) "Logic input that shuts down the device and sets all power outputs to high-impedance state"

## TPS2211IDB
designator U?
1 A Single-Slot PC Card Power Switch with Parallel Interface, 16-pin SSOP (DB), Green (RoHS & no Sb/Br); Manufacturer: Texas Instruments; PartNumber: TPS2211IDB; 3V rDS(on)(Typ)(mOhm): 50; Adjustable Current Limit(Min)(A): 1; Curr/Temp Protection: TRUE; SubFamily: PCMCIA/Cardbus Switch Matrix; DatasheetVersion: SLVS156E; PackageVersion: revE, Dec-2001; PackageReference: DB16; PackageDescription: 16-Pin Plastic Small Outline Package, 6.2 x 5.3 mm Body, 0.65 mm Pitch; Supplier 1: Digi-Key; Supplier Part Number 1: 296-26919-5-ND; Supplier 2: Newark; Supplier Part Number 2: 61H5548; Supplier 3: Mouser; Supplier Part Number 3: 595-TPS2211IDB; 5V rDS(on)(Typ)(mOhm): 50; Interface: Parallel; Over Current Reporting: TRUE; Ports: 1; Single: TRUE; Supports 12V: TRUE; Supports VPP: TRUE; Mounting Technology: Surface Mount; Code_JEDEC: MO-150; ComponentLink1Description: Datasheet; ComponentLink1URL: http://www.ti.com/general/docs/lit/getliterature.tsp?genericPartNumber=TPS2211&fileType=pdf
footprint DB16_N (SOP, 16-Leads, Body 6.2x5.3mm, Pitch 0.65mm, IPC Medium Density)
footprint DB16_L (SOP, 16-Leads, Body 6.2x5.3mm, Pitch 0.65mm, IPC High Density)
footprint DB16_M (SOP, 16-Leads, Body 6.2x5.3mm, Pitch 0.65mm, IPC Low Density)
pins: 1 ~{VCCD0} (in) "Logic input that controls voltage of AVCC", 2 ~{VCCD1} (in) "Logic input that controls voltage of AVCC", 3 3.3V (power) "3.3-V VCC input for card power and/or chip power if 5 V is not present", 4 3.3V (power) "3.3-V VCC input for card power and/or chip power if 5 V is not present", 5 5V (power) "5-V VCC input for card power and/or chip power", 6 5V (power) "5-V VCC input for card power and/or chip power", 7 GND (power) "Ground", 8 ~{OC} (out) "Logic-level overcurrent reporting output that goes low when an overcurrent conditions exists", 9 12V (power) "12-V Vpp input card power", 10 AVPP (power) "Switched output that delivers 0 V 3.3-V, 5-V, 12-V, or high impedance to card", 11 AVCC (power) "Switched output that delivers 0 V, 3.3-V, 5-V, or high impedance to card", 12 AVCC (power) "Switched output that delivers 0 V, 3.3-V, 5-V, or high impedance to card", 13 AVCC (power) "Switched output that delivers 0 V, 3.3-V, 5-V, or high impedance to card", 14 VPPD1 (in) "Logic input that controls voltage of AVPP", 15 VPPD0 (in) "Logic input that controls voltage of AVPP", 16 ~{SHDN} (in) "Logic input that shuts down the TPS2211 and sets all power outputs to high-impedance state"

## TPS2211IDBG4
designator U?
1 A Single-Slot PC Card Power Switch with Parallel Interface, 16-pin SSOP (DB), Green (RoHS & no Sb/Br); Manufacturer: Texas Instruments; PartNumber: TPS2211IDBG4; 3V rDS(on)(Typ)(mOhm): 50; Adjustable Current Limit(Min)(A): 1; Curr/Temp Protection: TRUE; SubFamily: PCMCIA/Cardbus Switch Matrix; DatasheetVersion: SLVS156E; PackageVersion: revE, Dec-2001; PackageReference: DB16; PackageDescription: 16-Pin Plastic Small Outline Package, 6.2 x 5.3 mm Body, 0.65 mm Pitch; Supplier 1: Digi-Key; Supplier Part Number 1: TPS2211IDBG4-ND; Supplier 2: Newark; Supplier Part Number 2: 80K3385; Supplier 3: Mouser; Supplier Part Number 3: 595-TPS2211IDBG4; 5V rDS(on)(Typ)(mOhm): 50; Interface: Parallel; Over Current Reporting: TRUE; Ports: 1; Single: TRUE; Supports 12V: TRUE; Supports VPP: TRUE; Mounting Technology: Surface Mount; Code_JEDEC: MO-150; ComponentLink1Description: Datasheet; ComponentLink1URL: http://www.ti.com/general/docs/lit/getliterature.tsp?genericPartNumber=TPS2211&fileType=pdf
footprint DB16_N (SOP, 16-Leads, Body 6.2x5.3mm, Pitch 0.65mm, IPC Medium Density)
footprint DB16_L (SOP, 16-Leads, Body 6.2x5.3mm, Pitch 0.65mm, IPC High Density)
footprint DB16_M (SOP, 16-Leads, Body 6.2x5.3mm, Pitch 0.65mm, IPC Low Density)
pins: 1 ~{VCCD0} (in) "Logic input that controls voltage of AVCC", 2 ~{VCCD1} (in) "Logic input that controls voltage of AVCC", 3 3.3V (power) "3.3-V VCC input for card power and/or chip power if 5 V is not present", 4 3.3V (power) "3.3-V VCC input for card power and/or chip power if 5 V is not present", 5 5V (power) "5-V VCC input for card power and/or chip power", 6 5V (power) "5-V VCC input for card power and/or chip power", 7 GND (power) "Ground", 8 ~{OC} (out) "Logic-level overcurrent reporting output that goes low when an overcurrent conditions exists", 9 12V (power) "12-V Vpp input card power", 10 AVPP (power) "Switched output that delivers 0 V 3.3-V, 5-V, 12-V, or high impedance to card", 11 AVCC (power) "Switched output that delivers 0 V, 3.3-V, 5-V, or high impedance to card", 12 AVCC (power) "Switched output that delivers 0 V, 3.3-V, 5-V, or high impedance to card", 13 AVCC (power) "Switched output that delivers 0 V, 3.3-V, 5-V, or high impedance to card", 14 VPPD1 (in) "Logic input that controls voltage of AVPP", 15 VPPD0 (in) "Logic input that controls voltage of AVPP", 16 ~{SHDN} (in) "Logic input that shuts down the TPS2211 and sets all power outputs to high-impedance state"

## TPS2211IDBR
designator U?
1 A Single-Slot PC Card Power Switch with Parallel Interface, -40 to 85 degC, 16-pin SSOP (DB), Green (RoHS & no Sb/Br); Manufacturer: Texas Instruments; PartNumber: TPS2211IDBR; 3V rDS(on)(Typ)(mOhm): 50; Adjustable Current Limit(Min)(A): 1; Curr/Temp Protection: TRUE; SubFamily: PCMCIA/Cardbus Switch Matrix; DatasheetVersion: SLVS156E; PackageVersion: revE, Dec-2001; PackageReference: DB16; PackageDescription: 16-Pin Plastic Small Outline Package, 6.2 x 5.3 mm Body, 0.65 mm Pitch; Supplier 1: Digi-Key; Supplier Part Number 1: 296-3461-2-ND; Supplier 2: Digi-Key; Supplier Part Number 2: 296-3461-1-ND; Supplier 3: Digi-Key; Supplier Part Number 3: 296-3461-6-ND; Supplier 4: Newark; Supplier Part Number 4: 77C0128; Supplier 5: Mouser; Supplier Part Number 5: 595-TPS2211IDBR; 5V rDS(on)(Typ)(mOhm): 50; Interface: Parallel; Over Current Reporting: TRUE; Ports: 1; Single: TRUE; Supports 12V: TRUE; Supports VPP: TRUE; Mounting Technology: Surface Mount; Code_JEDEC: MO-150; ComponentLink1Description: Datasheet; ComponentLink1URL: http://www.ti.com/general/docs/lit/getliterature.tsp?genericPartNumber=TPS2211&fileType=pdf
footprint DB16_N (SOP, 16-Leads, Body 6.2x5.3mm, Pitch 0.65mm, IPC Medium Density)
footprint DB16_L (SOP, 16-Leads, Body 6.2x5.3mm, Pitch 0.65mm, IPC High Density)
footprint DB16_M (SOP, 16-Leads, Body 6.2x5.3mm, Pitch 0.65mm, IPC Low Density)
pins: 1 ~{VCCD0} (in) "Logic input that controls voltage of AVCC", 2 ~{VCCD1} (in) "Logic input that controls voltage of AVCC", 3 3.3V (power) "3.3-V VCC input for card power and/or chip power if 5 V is not present", 4 3.3V (power) "3.3-V VCC input for card power and/or chip power if 5 V is not present", 5 5V (power) "5-V VCC input for card power and/or chip power", 6 5V (power) "5-V VCC input for card power and/or chip power", 7 GND (power) "Ground", 8 ~{OC} (out) "Logic-level overcurrent reporting output that goes low when an overcurrent conditions exists", 9 12V (power) "12-V Vpp input card power", 10 AVPP (power) "Switched output that delivers 0 V 3.3-V, 5-V, 12-V, or high impedance to card", 11 AVCC (power) "Switched output that delivers 0 V, 3.3-V, 5-V, or high impedance to card", 12 AVCC (power) "Switched output that delivers 0 V, 3.3-V, 5-V, or high impedance to card", 13 AVCC (power) "Switched output that delivers 0 V, 3.3-V, 5-V, or high impedance to card", 14 VPPD1 (in) "Logic input that controls voltage of AVPP", 15 VPPD0 (in) "Logic input that controls voltage of AVPP", 16 ~{SHDN} (in) "Logic input that shuts down the TPS2211 and sets all power outputs to high-impedance state"